# Altium footprint library HyTechDevices.PCBLIB: 298 footprints (part 3 of 19)
Each footprint in its own frame and in the unit in brackets; x right, y up, seen from the top. Pads: shape width x height; smd on the part's side, far side on the other; paste and mask are expansions set on the pad; w line width, h text height; cw(c..) or ccw(c..) is an arc to the next point about the centre after c.
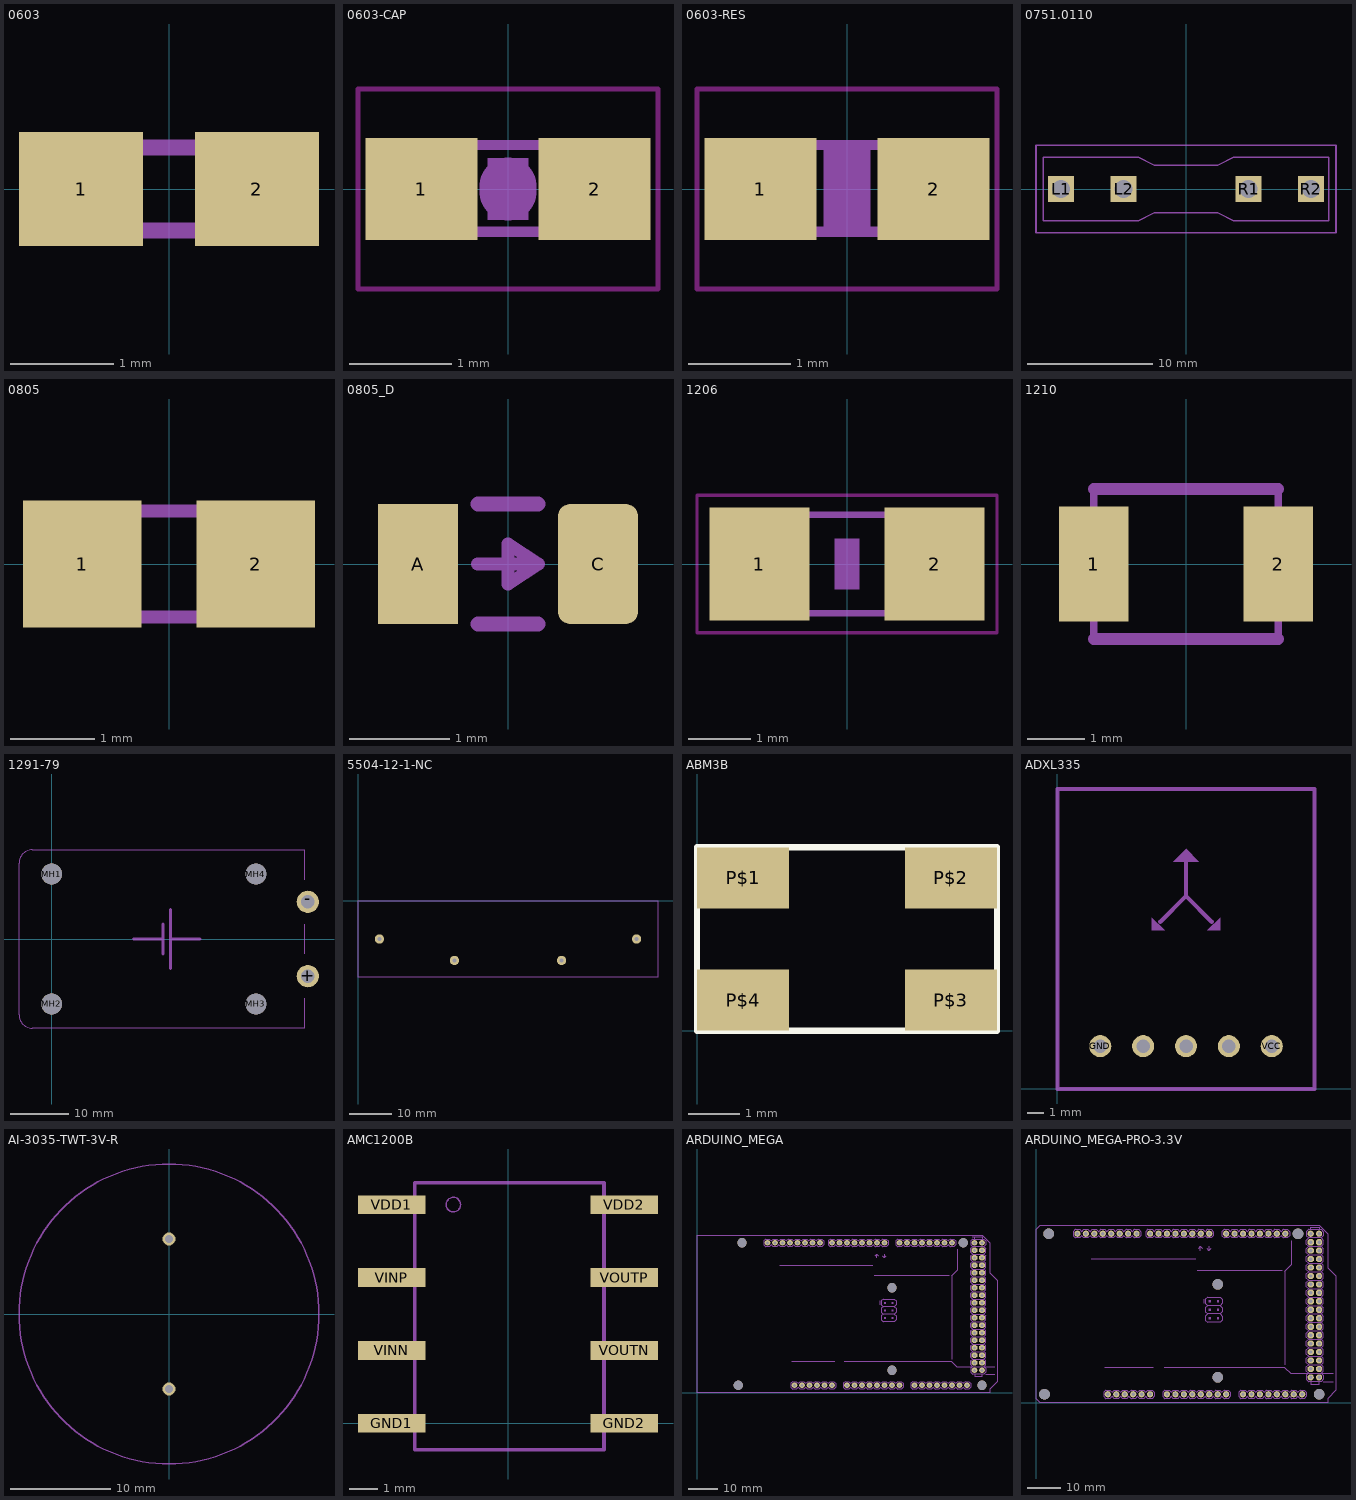
[diagram p2: the footprints below, top view; thin cyan lines are the x and y axes]

## 0603 [mil]
pads (2):
  rect 47.24x43.31 smd: 1(-33.46,0) 2(33.46,0)
Mechanical 7:
  lines w6: -31.5,-15.75 31.5,-15.75 31.5,15.75 -31.5,15.75 -31.5,-15.75

## 0603-CAP [mm]
pads (2):
  rect 1.1x1 smd: 1(-0.85,0) 2(0.85,0)
Top Layer keep-out:
  lines w0.051: -1.473,-0.983 1.473,-0.983 1.473,0.983 -1.473,0.983 -1.473,-0.983
Mechanical 3:
  region: -0.838,-0.47 -0.838,0.48 -0.338,0.48 -0.338,-0.47
  region: 0.33,-0.47 0.33,0.48 0.83,0.48 0.83,-0.47
  lines w0.102: -0.356,-0.419 0.356,-0.419 ; -0.356,0.432 0.356,0.432
Mechanical 7:
  lines w0.559: 0,-0.03 0,0.03
Top Glue Points:
  region: -0.2,-0.3 -0.2,0.3 0.2,0.3 0.2,-0.3

## 0603-RES [mm]
pads (2):
  rect 1.1x1 smd: 1(-0.85,0) 2(0.85,0)
Top Layer keep-out:
  lines w0.051: -1.473,-0.983 1.473,-0.983 1.473,0.983 -1.473,0.983 -1.473,-0.983
Mechanical 3:
  region: -0.838,-0.47 -0.838,0.48 -0.338,0.48 -0.338,-0.47
  region: 0.33,-0.47 0.33,0.48 0.83,0.48 0.83,-0.47
  lines w0.102: -0.356,-0.419 0.356,-0.419 ; -0.356,0.432 0.356,0.432
Mechanical 7:
  region: -0.229,-0.381 -0.229,0.381 0.229,0.381 0.229,-0.381
Top Glue Points:
  region: -0.2,-0.3 -0.2,0.3 0.2,0.3 0.2,-0.3

## 0751.0110 [mm]
pads (4):
  rect 2.1x2.1 / inner round 1.94 / far side rect 2.1x2.1 hole 1.4: L1(-10,0) L2(-5,0) R1(5,0) R2(10,0)
Mechanical 7:
  lines w0.127: -12,-3.5 -12,3.5 12,3.5 12,-3.5 -12,-3.5 ; -11.43,-2.54 -3.81,-2.54 -2.54,-1.905 2.54,-1.905 3.81,-2.54 11.43,-2.54 11.43,2.54 3.81,2.54 2.54,1.905 -2.54,1.905 -3.81,2.54 -11.43,2.54 -11.43,-2.54
  text "5x20mm" at 0,0 h1.57

## 0805 [mil]
pads (2):
  rect 55.12x59.06 smd: 1(-40.35,0) 2(40.35,0)
Mechanical 7:
  lines w6: -39.37,-24.61 39.37,-24.61 39.37,24.61 -39.37,24.61 -39.37,-24.61

## 0805_D [mil]
pads (2):
  rect 31.5x47.24 smd: A(-35.43,0)
  rrect30% 31.5x47.24 smd: C(35.43,0)
Mechanical 7:
  lines w5: -12,0 12,0 ; 12,0 0,-8 0,8 12,0
  lines w6: -11.81,-23.62 11.81,-23.62 ; -11.81,23.62 11.81,23.62

## 1206 [mil]
pads (2):
  rect 62.99x70.87 smd: 1(-55.12,0) 2(55.12,0)
Top Layer keep-out:
  lines w2: -94.49,-43.31 94.49,-43.31 94.49,43.31 -94.49,43.31 -94.49,-43.31
Mechanical 3:
  region: -67,-33.5 -67,33.43 -37.47,33.43 -37.47,-33.5
  region: 37.47,-33.43 37.47,33.5 67,33.5 67,-33.43
  lines w4: -37.99,-30.98 37.99,-30.98 ; -37.99,30.98 37.99,30.98
Top Glue Points:
  region: -7.87,-15.75 -7.87,15.75 7.87,15.75 7.87,-15.75

## 1210 [mm]
pads (2):
  rect 1.2x2 smd: 1(-1.6,0) 2(1.6,0)
Mechanical 3:
  lines w0.127: -1.6,-1.3 1.6,-1.3 1.6,1.3 -1.6,1.3 -1.6,-1.3
Mechanical 7:
  lines w0.203: -1.6,-1.3 1.6,-1.3 ; -1.6,1.3 1.6,1.3

## 1291-79 [mil]
pads (6):
  round 150 hole 90: +(1725,-250) -(1725,250)
  round 140 hole 140 unplated: MH1(0,437.5) MH2(0,-437.5) MH3(1375,-437.5) MH4(1375,437.5)
Mechanical 7:
  lines w5: 1700,-400 1700,-600 -130,-600 cw(c-130,-510) -220,-510 -220,510 cw(c-130,510) -130,600 1700,600 1700,400 ; 1700,-100 1700,100
  lines w20: 550,0 750,0 ; 750,-100 750,0 ; 750,100 750,0 ; 800,-200 800,0 ; 800,200 800,0 ; 1000,0 800,0

## 5504-12-1-NC [mil]
pads (4):
  round 86 hole 40: COIL+(1900,-555) COIL-(900,-555) CONTACT1(200,-355) CONTACT2(2600,-355)
Mechanical 7:
  lines w5: 0,-710 2800,-710 2800,0 0,0 0,-710
  text "5504-12-1-NC" at 1150,-300 h77.5

## ABM3B [mil]
pads (4):
  rect 71x47 smd: P$1(35.5,117.5) P$2(195.5,117.5) P$3(195.5,23.5) P$4(35.5,23.5)
Top Overlay:
  lines w5: 0,0 0,141 231,141 231,0 0,0

## ADXL335 [mil]
pads (5):
  round 51.5 hole 31.5: GND(100,100) VCC(500,100) X_OUT(400,100) Y_OUT(300,100) Z_OUT(200,100)
Mechanical 7:
  region: 270,530 330,530 300,560
  region: 350,370 380,400 380,370
  region: 220,400 250,370 220,370 220,390
  lines w10: 240,390 300,450 ; 300,530 300,450 ; 360,390 300,450 ; 0,0 600,0 600,700 0,700 0,0

## AI-3035-TWT-3V-R [mil]
pads (2):
  round 51.5 hole 31.5: P$1(0,295.28) P$2(0,-295.28)
Mechanical 7:
  lines w5: 0,-590.55 ccw(c0,0) 0,590.55 ccw(c0,0) 0,-590.55

## AMC1200B [mm]
pads (8):
  rect 2.35x0.65 smd: GND1(-4.05,0) GND2(4.05,0) VDD1(-4.05,7.62) VDD2(4.05,7.62) VINN(-4.05,2.54) VINP(-4.05,5.08) VOUTN(4.05,2.54) VOUTP(4.05,5.08)
Mechanical 7:
  circle w0.051: c-1.905,7.62 r0.254
  lines w0.127: -3.254,-0.919 3.346,-0.919 3.346,8.381 -3.254,8.381 -3.254,-0.919

## ARDUINO_MEGA [mil]
pads (88):
  round 74 hole 40: 0(2500,2000) 1(2400,2000) 2(2300,2000) 3(2200,2000) 3.3V(1400,100) 4(2100,2000) 5(2000,2000) 5V@0(1500,100) 5V@1(3700,2000) 5V@2(3800,2000) 6(1900,2000) 7(1800,2000) 8(1640,2000) 9(1540,2000) 10(1440,2000) 11(1340,2000) 12(1240,2000) 13(1140,2000) 14(2700,2000) 15(2800,2000) 16(2900,2000) 17(3000,2000) 18(3100,2000) 19(3200,2000) 20(3300,2000) 21(3400,2000) A0(2000,100) A1(2100,100) A2(2200,100) A3(2300,100) A4(2400,100) A5(2500,100) A6(2600,100) A7(2700,100) A8(2900,100) A9(3000,100) A10(3100,100) A11(3200,100) A12(3300,100) A13(3400,100) A14(3500,100) A15(3600,100) AREF(940,2000) GND@0(1600,100) GND@1(1700,100) GND@2(3700,300) GND@3(3800,300) GND@4(1040,2000) RESET(1300,100) VIN(1800,100)
  oct 74x74 / inner round 68.37 / far side oct 74x74 hole 40: 22(3700,1900) 23(3800,1900) 24(3700,1800) 25(3800,1800) 26(3700,1700) 27(3800,1700) 28(3700,1600) 29(3800,1600) 30(3700,1500) 31(3800,1500) 32(3700,1400) 33(3800,1400) 34(3700,1300) 35(3800,1300) 36(3700,1200) 37(3800,1200) 38(3700,1100) 39(3800,1100) 40(3700,1000) 41(3800,1000) 42(3700,900) 43(3800,900) 44(3700,800) 45(3800,800) 46(3700,700) 47(3800,700) 48(3700,600) 49(3800,600) 50(3700,500) 51(3800,500) 52(3700,400) 53(3800,400)
  round 125.98 hole 125.98 unplated: MH1(600,2000) MH2(550,100) MH3(2600,1400) MH4(2600,300) MH5(3550,2000) MH6(3800,100)
Mechanical 3:
  drawing of 120 lines, arcs and shapes, not listed
Mechanical 7:
  drawing of 438 lines, arcs and shapes, not listed
  text "0" at 2515,1880 h47.6
  text "1" at 2415,1880 h47.6
  text "2" at 2315,1880 h47.6
  text "3" at 2215,1880 h47.6
  text "4" at 2115,1880 h47.6
  text "5" at 2015,1880 h47.6
  text "6" at 1915,1880 h47.6
  text "7" at 1815,1880 h47.6
  text "8" at 1665,1880 h47.6
  text "9" at 1565,1880 h47.6
  text "10" at 1465,1830 h47.6
  text "11" at 1365,1830 h47.6
  text "12" at 1265,1830 h47.6
  text "13" at 1165,1830 h47.6
  text "14" at 2715,1845 h47.6
  text "15" at 2815,1845 h47.6
  text "16" at 2915,1845 h47.6
  text "17" at 3015,1845 h47.6
  text "18" at 3115,1845 h47.6
  text "19" at 3215,1845 h47.6
  text "20" at 3315,1845 h47.6
  text "21" at 3415,1845 h47.6
  text "22" at 3531,1870 h47.6
  text "24" at 3531,1770 h47.6
  text "26" at 3531,1670 h47.6
  text "28" at 3531,1570 h47.6
  text "30" at 3531,1470 h47.6
  text "32" at 3531,1370 h47.6
  text "34" at 3531,1270 h47.6
  text "36" at 3531,1170 h47.6
  text "38" at 3531,1070 h47.6
  text "40" at 3531,970 h47.6
  text "42" at 3531,870 h47.6
  text "44" at 3531,770 h47.6
  text "46" at 3531,670 h47.6
  text "50" at 3531,470 h47.6
  text "48" at 3531,570 h47.6
  text "52" at 3531,370 h47.6
  text "31" at 3875,1471 h47.6
  text "33" at 3875,1371 h47.6
  text "35" at 3875,1271 h47.6
  text "37" at 3875,1171 h47.6
  text "39" at 3875,1071 h47.6
  text "41" at 3875,971 h47.6
  text "43" at 3875,871 h47.6
  text "45" at 3875,771 h47.6
  text "47" at 3875,671 h47.6
  text "49" at 3875,571 h47.6
  text "51" at 3875,471 h47.6
  text "53" at 3875,371 h47.6
  text "A0" at 2030,181 h47.6
  text "A1" at 2120,181 h47.6
  text "A2" at 2230,181 h47.6
  text "A3" at 2330,181 h47.6
  text "A4" at 2430,181 h47.6
  text "A5" at 2525,181 h47.6
  text "6" at 2625,181 h47.6
  text "A7" at 2730,181 h47.6
  text "A8" at 2930,181 h47.6
  text "A9" at 3030,181 h47.6
  text "A10" at 3130,181 h47.6
  text "A11" at 3230,181 h47.6
  text "A12" at 3330,181 h47.6
  text "A13" at 3430,181 h47.6
  text "A14" at 3530,181 h47.6
  text "A15" at 3625,181 h47.6
  text "ANALOG IN" at 2010,320 h51
  text "COMMUNICATION" at 2380,1585 h51
  text "DIGITAL" at 3485,460 h51
  text "GND" at 3875,271 h34
  text "TX0" at 2415,1680 h34
  text "RX0" at 2515,1680 h34
  text "PWM" at 1150,1725 h51
  text "TX3" at 2715,1680 h34
  text "RX3" at 2815,1680 h34
  text "TX2" at 2915,1680 h34
  text "RX2" at 3015,1680 h34
  text "TX1" at 3115,1680 h34
  text "RX1" at 3215,1680 h34
  text "SDA" at 3315,1680 h34
  text "SCL" at 3415,1680 h34
  text "POWER" at 1560,320 h51
  text "RESET" at 1320,181 h34
  text "5V" at 1420,181 h34
  text "5V" at 1520,181 h34
  text "GND" at 1620,181 h34
  text "GND" at 1720,181 h34
  text "Vin" at 1820,181 h34
  text "GND" at 1010,1930 h47.6
  text "AREF" at 915,1930 h47.6
  text "5V" at 3600,2050 h29.75

## ARDUINO_MEGA-PRO-3.3V [mil]
pads (88):
  round 74 hole 40: 0(2050,2000) 1(1950,2000) 2(1850,2000) 3(1750,2000) 3.3V(950,100) 4(1650,2000) 5(1550,2000) 5V@0(1050,100) 5V@1(3250,2000) 5V@2(3350,2000) 6(1450,2000) 7(1350,2000) 8(1190,2000) 9(1090,2000) 10(990,2000) 11(890,2000) 12(790,2000) 13(690,2000) 14(2250,2000) 15(2350,2000) 16(2450,2000) 17(2550,2000) 18(2650,2000) 19(2750,2000) 20(2850,2000) 21(2950,2000) A0(1550,100) A1(1650,100) A2(1750,100) A3(1850,100) A4(1950,100) A5(2050,100) A6(2150,100) A7(2250,100) A8(2450,100) A9(2550,100) A10(2650,100) A11(2750,100) A12(2850,100) A13(2950,100) A14(3050,100) A15(3150,100) AREF(490,2000) GND@0(1150,100) GND@1(1250,100) GND@2(3250,300) GND@3(3350,300) GND@4(590,2000) RESET(850,100) VIN(1350,100)
  oct 74x74 / inner round 68.37 / far side oct 74x74 hole 40: 22(3250,1900) 23(3350,1900) 24(3250,1800) 25(3350,1800) 26(3250,1700) 27(3350,1700) 28(3250,1600) 29(3350,1600) 30(3250,1500) 31(3350,1500) 32(3250,1400) 33(3350,1400) 34(3250,1300) 35(3350,1300) 36(3250,1200) 37(3350,1200) 38(3250,1100) 39(3350,1100) 40(3250,1000) 41(3350,1000) 42(3250,900) 43(3350,900) 44(3250,800) 45(3350,800) 46(3250,700) 47(3350,700) 48(3250,600) 49(3350,600) 50(3250,500) 51(3350,500) 52(3250,400) 53(3350,400)
  round 125.98 hole 125.98 unplated: MH1(150,2000) MH2(100,100) MH3(2150,1400) MH4(2150,300) MH5(3100,2000) MH6(3350,100)
Mechanical 3:
  drawing of 122 lines, arcs and shapes, not listed
Mechanical 7:
  drawing of 437 lines, arcs and shapes, not listed
  text "0" at 2065,1880 h47.6
  text "1" at 1965,1880 h47.6
  text "2" at 1865,1880 h47.6
  text "3" at 1765,1880 h47.6
  text "4" at 1665,1880 h47.6
  text "5" at 1565,1880 h47.6
  text "6" at 1465,1880 h47.6
  text "7" at 1365,1880 h47.6
  text "8" at 1215,1880 h47.6
  text "9" at 1115,1880 h47.6
  text "10" at 1015,1830 h47.6
  text "11" at 915,1830 h47.6
  text "12" at 815,1830 h47.6
  text "13" at 715,1830 h47.6
  text "14" at 2265,1845 h47.6
  text "15" at 2365,1845 h47.6
  text "16" at 2465,1845 h47.6
  text "17" at 2565,1845 h47.6
  text "18" at 2665,1845 h47.6
  text "19" at 2765,1845 h47.6
  text "20" at 2865,1845 h47.6
  text "21" at 2965,1845 h47.6
  text "22" at 3081,1870 h47.6
  text "24" at 3081,1770 h47.6
  text "26" at 3081,1670 h47.6
  text "28" at 3081,1570 h47.6
  text "30" at 3081,1470 h47.6
  text "32" at 3081,1370 h47.6
  text "34" at 3081,1270 h47.6
  text "36" at 3081,1170 h47.6
  text "38" at 3081,1070 h47.6
  text "40" at 3081,970 h47.6
  text "42" at 3081,870 h47.6
  text "44" at 3081,770 h47.6
  text "46" at 3081,670 h47.6
  text "50" at 3081,470 h47.6
  text "48" at 3081,570 h47.6
  text "52" at 3081,370 h47.6
  text "31" at 3425,1471 h47.6
  text "33" at 3425,1371 h47.6
  text "35" at 3425,1271 h47.6
  text "37" at 3425,1171 h47.6
  text "39" at 3425,1071 h47.6
  text "41" at 3425,971 h47.6
  text "43" at 3425,871 h47.6
  text "45" at 3425,771 h47.6
  text "47" at 3425,671 h47.6
  text "49" at 3425,571 h47.6
  text "51" at 3425,471 h47.6
  text "53" at 3425,371 h47.6
  text "A0" at 1580,181 h47.6
  text "A1" at 1670,181 h47.6
  text "A2" at 1780,181 h47.6
  text "A3" at 1880,181 h47.6
  text "A4" at 1980,181 h47.6
  text "A5" at 2075,181 h47.6
  text "6" at 2175,181 h47.6
  text "A7" at 2280,181 h47.6
  text "A8" at 2480,181 h47.6
  text "A9" at 2580,181 h47.6
  text "A10" at 2680,181 h47.6
  text "A11" at 2780,181 h47.6
  text "A12" at 2880,181 h47.6
  text "A13" at 2980,181 h47.6
  text "A14" at 3080,181 h47.6
  text "A15" at 3175,181 h47.6
  text "ANALOG IN" at 1560,320 h51
  text "COMMUNICATION" at 1930,1585 h51
  text "DIGITAL" at 3035,460 h51
  text "GND" at 3425,271 h34
  text "TX0" at 1965,1680 h34
  text "RX0" at 2065,1680 h34
  text "PWM" at 700,1725 h51
  text "TX3" at 2265,1680 h34
  text "RX3" at 2365,1680 h34
  text "TX2" at 2465,1680 h34
  text "RX2" at 2565,1680 h34
  text "TX1" at 2665,1680 h34
  text "RX1" at 2765,1680 h34
  text "SDA" at 2865,1680 h34
  text "SCL" at 2965,1680 h34
  text "POWER" at 1110,320 h51
  text "RESET" at 870,181 h34
  text "3.3V" at 970,181 h34
  text "3.3V" at 1070,181 h34
  text "GND" at 1170,181 h34
  text "GND" at 1270,181 h34
  text "Vin" at 1370,181 h34
  text "GND" at 560,1930 h47.6
  text "AREF" at 465,1930 h47.6
  text "3.3" at 3150,2050 h29.75